# Altium footprint library ftg_lib.PcbLib: 53 footprints (part 4 of 4)
Each footprint in its own frame and in the unit in brackets; x right, y up, seen from the top. Pads: shape width x height; smd on the part's side, far side on the other; paste and mask are expansions set on the pad; w line width, h text height; cw(c..) or ccw(c..) is an arc to the next point about the centre after c.
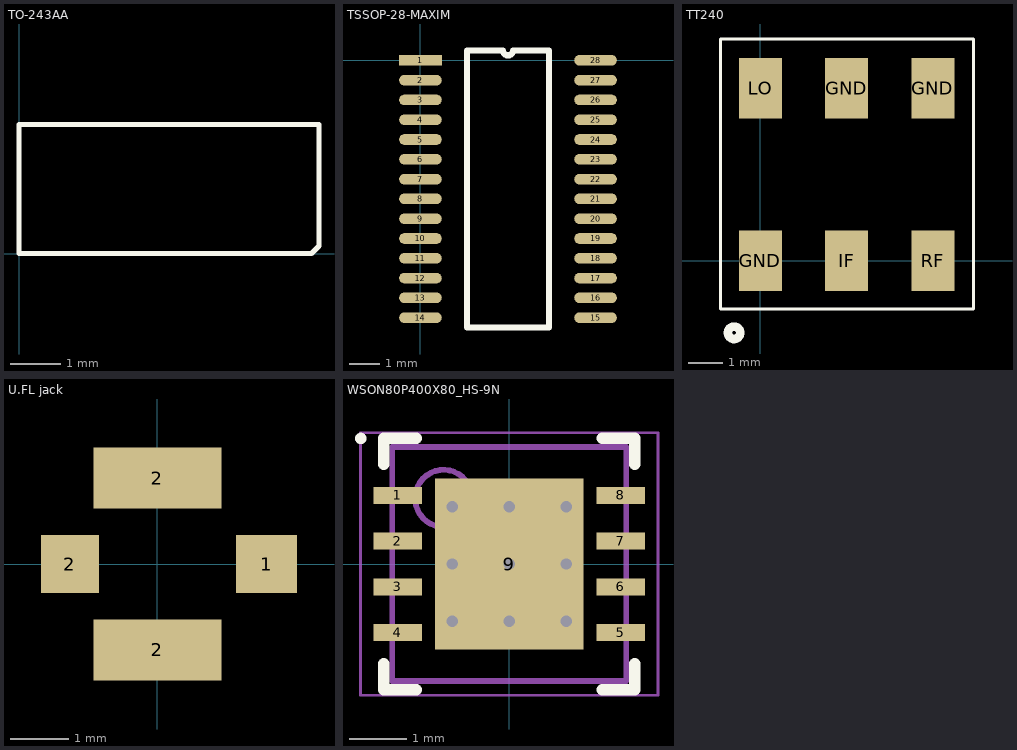
[diagram p3: the footprints below, top view; thin cyan lines are the x and y axes]

## TO-243AA [mm] "TO-243AA"
height 1.6
Top Overlay:
  lines w0.1: 0,0 5.775,0 5.925,0.15 5.925,2.55 0,2.55 0,0

## TSSOP-28-MAXIM [mm]
pads (28):
  rect 1.4x0.35 smd: 1(0,0)
  oval 1.4x0.35 smd: 2(0,-0.65) 3(0,-1.3) 4(0,-1.95) 5(0,-2.6) 6(0,-3.25) 7(0,-3.9) 8(0,-4.55) 9(0,-5.2) 10(0,-5.85) 11(0,-6.5) 12(0,-7.15) 13(0,-7.8) 14(0,-8.45) 15(5.75,-8.45) 16(5.75,-7.8) 17(5.75,-7.15) 18(5.75,-6.5) 19(5.75,-5.85) 20(5.75,-5.2) 21(5.75,-4.55) 22(5.75,-3.9) 23(5.75,-3.25) 24(5.75,-2.6) 25(5.75,-1.95) 26(5.75,-1.3) 27(5.75,-0.65) 28(5.75,0)
Top Overlay:
  lines w0.2: 1.535,-8.775 4.215,-8.775 4.215,0.325 3.037,0.325 cw(c2.875,0.325) 2.713,0.325 1.535,0.325 1.535,-8.775
3D body "tssop_28.STEP": height 1.1, standoff 0, extent -0.375,-9 6.125,0.8

## TT240 [mm] "TT240 Mixer package"
height 5.08
pads (6):
  rect 1.27x1.78 smd: GND(0,0) GND(2.54,5.08) GND(5.08,5.08) IF(2.54,0) LO(0,5.08) RF(5.08,0)
Top Overlay:
  circle w0.254: c-0.775,-2.125 r0.182
  lines w0.1: -1.175,-1.425 -1.175,6.525 6.275,6.525 6.275,-1.425 -1.175,-1.425

## U.FL jack [mm] "U.FL smd jack AMPhenol RF AMC series"
height 1.25
pads (4):
  rect 1.05x1 smd: 1(1.875,0)
  rect 1x1 smd: 2(-1.5,0)
  rect 2.2x1.05 smd: 2(0,-1.475) 2(0,1.475)
3D body "u.Fl Antenna Connector - 523-A-1JB.SLDPRT": height 1.25, standoff 0, extent -1.5,-1.5 1.6,1.5

## WSON80P400X80_HS-9N [mm] "WSON, 8-Leads, Body 4,00x4,00mm, Pitch 0,80mm, Thermal Pad 3,00x2,60mm, IPC Medium Density"
height 0.8
pads (9):
  rect 0.85x0.3 smd: 1(-1.955,1.2) 2(-1.955,0.4) 3(-1.955,-0.4) 4(-1.955,-1.2) 5(1.955,-1.2) 6(1.955,-0.4) 7(1.955,0.4) 8(1.955,1.2)
  rect 2.6x3 smd paste-1.3: 9(0,0)
via -1,1 diameter 0.5 hole 0.2
via 0,1 diameter 0.5 hole 0.2
via 1,1 diameter 0.5 hole 0.2
via -1,0 diameter 0.5 hole 0.2
via 0,0 diameter 0.5 hole 0.2
via 1,0 diameter 0.5 hole 0.2
via -1,-1 diameter 0.5 hole 0.2
via 0,-1 diameter 0.5 hole 0.2
via 1,-1 diameter 0.5 hole 0.2
Top Overlay:
  circle w0.1: c-2.6,2.2 r0.05
  lines w0.2: -2.2,-1.75 -2.2,-2.2 -1.63,-2.2 ; -2.2,1.75 -2.2,2.2 -1.63,2.2 ; 1.63,-2.2 2.2,-2.2 2.2,-1.75 ; 1.63,2.2 2.2,2.2 2.2,1.75
Top Paste:
  rectangle: -1.2,0.1 -0.1,1.4
  rectangle: -1.2,-1.4 -0.1,-0.1
  rectangle: 0.1,0.1 1.2,1.4
  rectangle: 0.1,-1.4 1.2,-0.1
Mechanical 13:
  circle w0.1: c-1.15,1.15 r0.5
  lines w0.1: -2.05,-2.05 -2.05,2.05 2.05,2.05 2.05,-2.05 -2.05,-2.05
Mechanical 15:
  lines w0.05: -2.605,-2.3 -2.605,2.3 2.605,2.3 2.605,-2.3 -2.605,-2.3
  lines w0.1: -0.5,0 0.5,0 ; 0,-0.5 0,0.5
3D body "SON80P400X80_HS-9N.step": height 0.8, standoff 0, extent -2.15,-2.05 2.15,2.05